# Altium footprint library Connector_FFC-FPC.PcbLib: 372 footprints (part 10 of 24)
Each footprint in its own frame and in the unit in brackets; x right, y up, seen from the top. Pads: shape width x height; smd on the part's side, far side on the other; paste and mask are expansions set on the pad; w line width, h text height; cw(c..) or ccw(c..) is an arc to the next point about the centre after c.
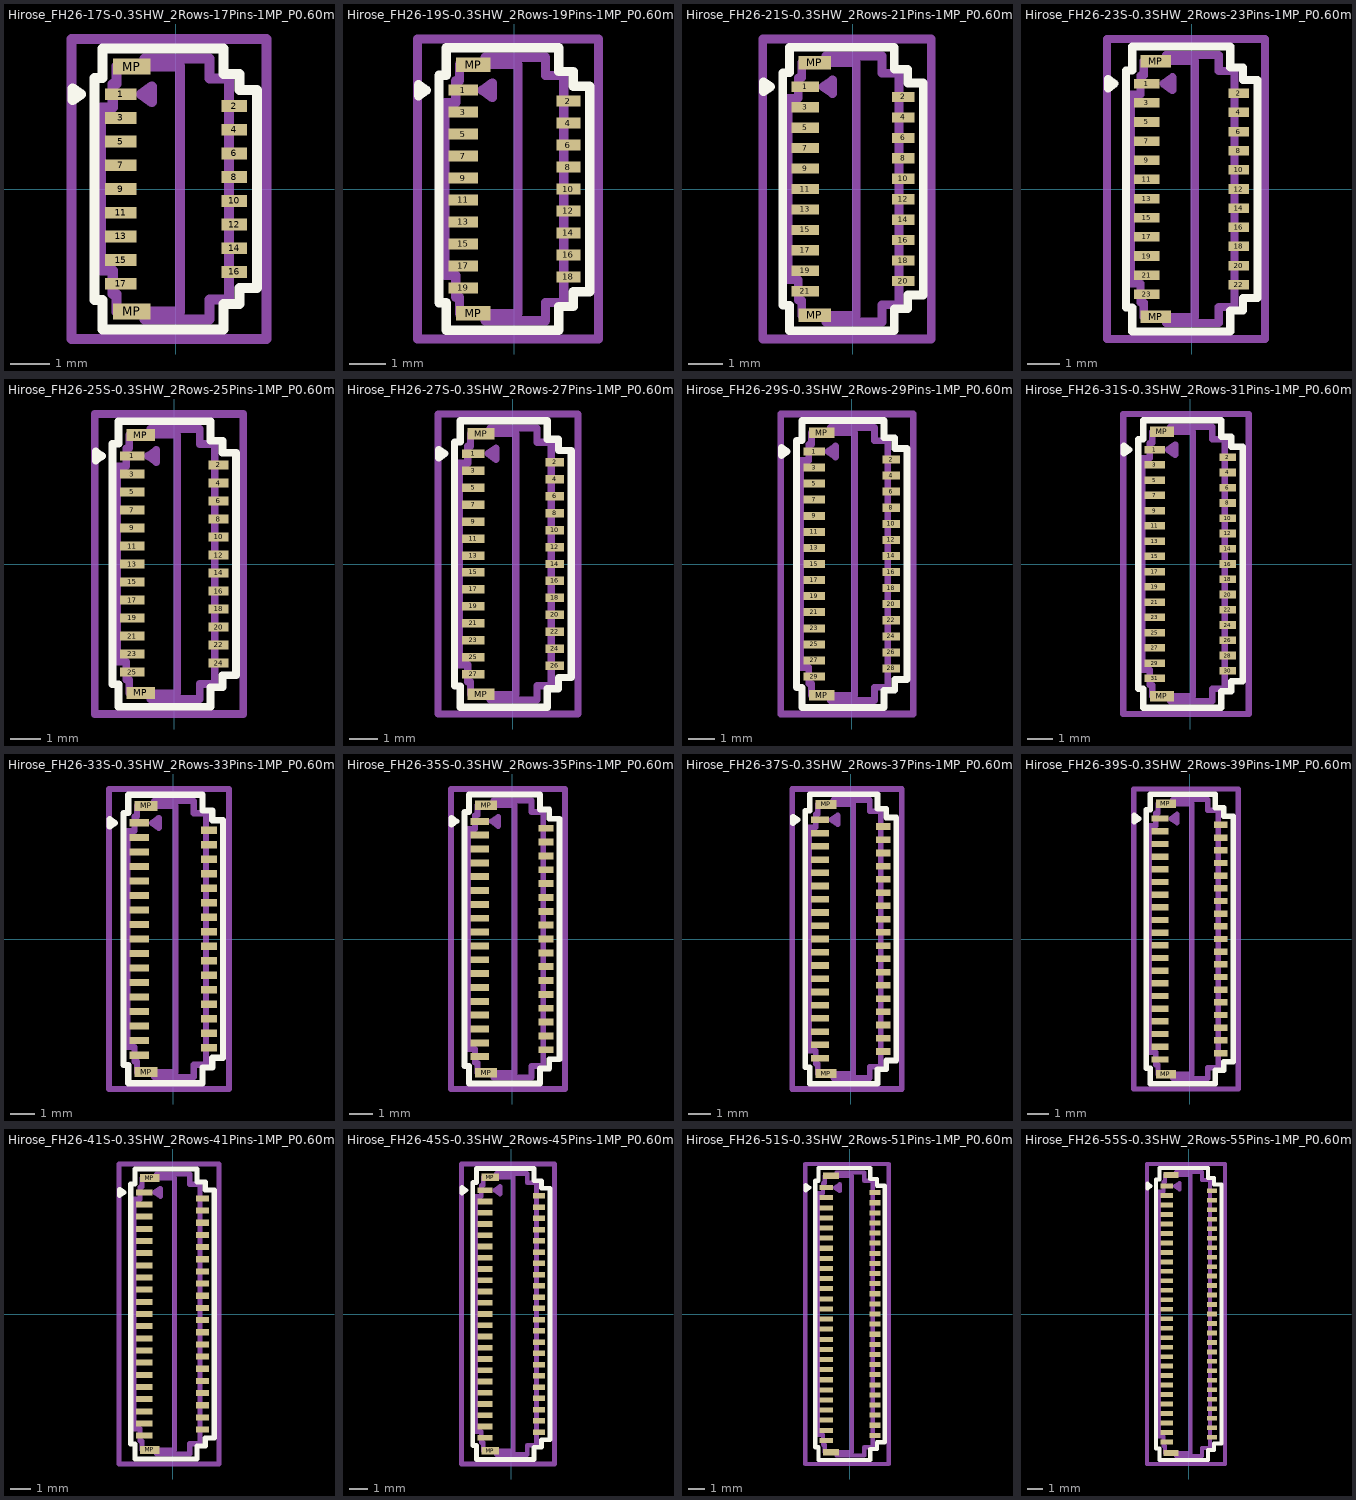
[diagram p9: the footprints below, top view; thin cyan lines are the x and y axes]

## Hirose_FH26-17S-0.3SHW_2Rows-17Pins-1MP_P0.60mm_Horizontal [mm]
pads (19):
  rect 0.8x0.3 smd: 1(-1.4,2.4) 3(-1.4,1.8) 5(-1.4,1.2) 7(-1.4,0.6) 9(-1.4,0) 11(-1.4,-0.6) 13(-1.4,-1.2) 15(-1.4,-1.8) 17(-1.4,-2.4)
  rect 0.65x0.3 smd: 2(1.475,2.1) 4(1.475,1.5) 6(1.475,0.9) 8(1.475,0.3) 10(1.475,-0.3) 12(1.475,-0.9) 14(1.475,-1.5) 16(1.475,-2.1)
  rect 0.95x0.4 smd: MP(-1.125,-3.1) MP(-1.125,3.1)
F.SilkS:
  lines w0.254: -2.622,2.25 -2.41,2.4 -2.622,2.55 -2.622,2.25 ; -2.06,-2.81 -1.86,-2.81 -1.86,-3.56 1.21,-3.56 1.21,-2.91 1.61,-2.91 1.61,-2.51 2.06,-2.51 2.06,0 2.06,2.51 1.61,2.51 1.61,2.91 1.21,2.91 1.21,3.56 -1.86,3.56 -1.86,2.81 -2.06,2.81 -2.06,0 -2.06,-2.81
Top Assembly:
  lines w0.254: -0.8,-3.11 0.1,-3.11 0.1,0 0.1,3.11 -0.8,3.11 ; -0.8,-3.11 -0.8,-3.3 0.85,-3.3 0.85,-2.8 1.35,-2.8 1.35,0 1.35,2.8 0.85,2.8 0.85,3.3 -0.8,3.3 -0.8,3.11 ; -0.8,-3.11 -1.5,-3.11 -1.5,-2.66 -1.6,-2.66 -1.6,-2.06 -1.9,-2.06 -1.9,0 -1.9,2.06 -1.6,2.06 -1.6,2.66 -1.5,2.66 -1.5,3.11 -0.8,3.11 ; -0.883,2.4 -0.6,2.6 -0.6,2.2 -0.883,2.4
  text "'.Designator'" at 1.429,-3.276 h0.81
Top Courtyard:
  lines w0.254: -2.65,-3.8 2.3,-3.8 2.3,3.8 -2.65,3.8 -2.65,-3.8
Top Designator:
  text ".Designator" at -7.793,-0.508 h1.52

## Hirose_FH26-19S-0.3SHW_2Rows-19Pins-1MP_P0.60mm_Horizontal [mm]
pads (21):
  rect 0.8x0.3 smd: 1(-1.4,2.7) 3(-1.4,2.1) 5(-1.4,1.5) 7(-1.4,0.9) 9(-1.4,0.3) 11(-1.4,-0.3) 13(-1.4,-0.9) 15(-1.4,-1.5) 17(-1.4,-2.1) 19(-1.4,-2.7)
  rect 0.65x0.3 smd: 2(1.475,2.4) 4(1.475,1.8) 6(1.475,1.2) 8(1.475,0.6) 10(1.475,0) 12(1.475,-0.6) 14(1.475,-1.2) 16(1.475,-1.8) 18(1.475,-2.4)
  rect 0.95x0.4 smd: MP(-1.125,-3.4) MP(-1.125,3.4)
F.SilkS:
  lines w0.254: -2.622,2.55 -2.41,2.7 -2.622,2.85 -2.622,2.55 ; -2.06,-3.11 -1.86,-3.11 -1.86,-3.86 1.21,-3.86 1.21,-3.21 1.61,-3.21 1.61,-2.81 2.06,-2.81 2.06,0 2.06,2.81 1.61,2.81 1.61,3.21 1.21,3.21 1.21,3.86 -1.86,3.86 -1.86,3.11 -2.06,3.11 -2.06,0 -2.06,-3.11
Top Assembly:
  lines w0.254: -0.8,-3.41 0.1,-3.41 0.1,0 0.1,3.41 -0.8,3.41 ; -0.8,-3.41 -0.8,-3.6 0.85,-3.6 0.85,-3.1 1.35,-3.1 1.35,0 1.35,3.1 0.85,3.1 0.85,3.6 -0.8,3.6 -0.8,3.41 ; -0.8,-3.41 -1.5,-3.41 -1.5,-2.96 -1.6,-2.96 -1.6,-2.36 -1.9,-2.36 -1.9,0 -1.9,2.36 -1.6,2.36 -1.6,2.96 -1.5,2.96 -1.5,3.41 -0.8,3.41 ; -0.883,2.7 -0.6,2.9 -0.6,2.5 -0.883,2.7
  text "'.Designator'" at 1.429,-3.276 h0.81
Top Courtyard:
  lines w0.254: -2.65,-4.1 2.3,-4.1 2.3,4.1 -2.65,4.1 -2.65,-4.1
Top Designator:
  text ".Designator" at -7.793,-0.508 h1.52

## Hirose_FH26-21S-0.3SHW_2Rows-21Pins-1MP_P0.60mm_Horizontal [mm]
pads (23):
  rect 0.8x0.3 smd: 1(-1.4,3) 3(-1.4,2.4) 5(-1.4,1.8) 7(-1.4,1.2) 9(-1.4,0.6) 11(-1.4,0) 13(-1.4,-0.6) 15(-1.4,-1.2) 17(-1.4,-1.8) 19(-1.4,-2.4) 21(-1.4,-3)
  rect 0.65x0.3 smd: 2(1.475,2.7) 4(1.475,2.1) 6(1.475,1.5) 8(1.475,0.9) 10(1.475,0.3) 12(1.475,-0.3) 14(1.475,-0.9) 16(1.475,-1.5) 18(1.475,-2.1) 20(1.475,-2.7)
  rect 0.95x0.4 smd: MP(-1.125,-3.7) MP(-1.125,3.7)
F.SilkS:
  lines w0.254: -2.622,2.85 -2.41,3 -2.622,3.15 -2.622,2.85 ; -2.06,-3.41 -1.86,-3.41 -1.86,-4.16 1.21,-4.16 1.21,-3.51 1.61,-3.51 1.61,-3.11 2.06,-3.11 2.06,0 2.06,3.11 1.61,3.11 1.61,3.51 1.21,3.51 1.21,4.16 -1.86,4.16 -1.86,3.41 -2.06,3.41 -2.06,0 -2.06,-3.41
Top Assembly:
  lines w0.254: -0.8,-3.71 0.1,-3.71 0.1,0 0.1,3.71 -0.8,3.71 ; -0.8,-3.71 -0.8,-3.9 0.85,-3.9 0.85,-3.4 1.35,-3.4 1.35,0 1.35,3.4 0.85,3.4 0.85,3.9 -0.8,3.9 -0.8,3.71 ; -0.8,-3.71 -1.5,-3.71 -1.5,-3.26 -1.6,-3.26 -1.6,-2.66 -1.9,-2.66 -1.9,0 -1.9,2.66 -1.6,2.66 -1.6,3.26 -1.5,3.26 -1.5,3.71 -0.8,3.71 ; -0.883,3 -0.6,3.2 -0.6,2.8 -0.883,3
  text "'.Designator'" at 1.429,-3.276 h0.81
Top Courtyard:
  lines w0.254: -2.65,-4.4 2.3,-4.4 2.3,4.4 -2.65,4.4 -2.65,-4.4
Top Designator:
  text ".Designator" at -7.793,-0.508 h1.52

## Hirose_FH26-23S-0.3SHW_2Rows-23Pins-1MP_P0.60mm_Horizontal [mm]
pads (25):
  rect 0.8x0.3 smd: 1(-1.4,3.3) 3(-1.4,2.7) 5(-1.4,2.1) 7(-1.4,1.5) 9(-1.4,0.9) 11(-1.4,0.3) 13(-1.4,-0.3) 15(-1.4,-0.9) 17(-1.4,-1.5) 19(-1.4,-2.1) 21(-1.4,-2.7) 23(-1.4,-3.3)
  rect 0.65x0.3 smd: 2(1.475,3) 4(1.475,2.4) 6(1.475,1.8) 8(1.475,1.2) 10(1.475,0.6) 12(1.475,0) 14(1.475,-0.6) 16(1.475,-1.2) 18(1.475,-1.8) 20(1.475,-2.4) 22(1.475,-3)
  rect 0.95x0.4 smd: MP(-1.125,-4) MP(-1.125,4)
F.SilkS:
  lines w0.254: -2.622,3.15 -2.41,3.3 -2.622,3.45 -2.622,3.15 ; -2.06,-3.71 -1.86,-3.71 -1.86,-4.46 1.21,-4.46 1.21,-3.81 1.61,-3.81 1.61,-3.41 2.06,-3.41 2.06,0 2.06,3.41 1.61,3.41 1.61,3.81 1.21,3.81 1.21,4.46 -1.86,4.46 -1.86,3.71 -2.06,3.71 -2.06,0 -2.06,-3.71
Top Assembly:
  lines w0.254: -0.8,-4.01 0.1,-4.01 0.1,0 0.1,4.01 -0.8,4.01 ; -0.8,-4.01 -0.8,-4.2 0.85,-4.2 0.85,-3.7 1.35,-3.7 1.35,0 1.35,3.7 0.85,3.7 0.85,4.2 -0.8,4.2 -0.8,4.01 ; -0.8,-4.01 -1.5,-4.01 -1.5,-3.56 -1.6,-3.56 -1.6,-2.96 -1.9,-2.96 -1.9,0 -1.9,2.96 -1.6,2.96 -1.6,3.56 -1.5,3.56 -1.5,4.01 -0.8,4.01 ; -0.883,3.3 -0.6,3.5 -0.6,3.1 -0.883,3.3
  text "'.Designator'" at 1.429,-3.276 h0.81
Top Courtyard:
  lines w0.254: -2.65,-4.7 2.3,-4.7 2.3,4.7 -2.65,4.7 -2.65,-4.7
Top Designator:
  text ".Designator" at -7.793,-0.508 h1.52

## Hirose_FH26-25S-0.3SHW_2Rows-25Pins-1MP_P0.60mm_Horizontal [mm]
pads (27):
  rect 0.8x0.3 smd: 1(-1.4,3.6) 3(-1.4,3) 5(-1.4,2.4) 7(-1.4,1.8) 9(-1.4,1.2) 11(-1.4,0.6) 13(-1.4,0) 15(-1.4,-0.6) 17(-1.4,-1.2) 19(-1.4,-1.8) 21(-1.4,-2.4) 23(-1.4,-3) 25(-1.4,-3.6)
  rect 0.65x0.3 smd: 2(1.475,3.3) 4(1.475,2.7) 6(1.475,2.1) 8(1.475,1.5) 10(1.475,0.9) 12(1.475,0.3) 14(1.475,-0.3) 16(1.475,-0.9) 18(1.475,-1.5) 20(1.475,-2.1) 22(1.475,-2.7) 24(1.475,-3.3)
  rect 0.95x0.4 smd: MP(-1.125,-4.3) MP(-1.125,4.3)
F.SilkS:
  lines w0.254: -2.622,3.45 -2.41,3.6 -2.622,3.75 -2.622,3.45 ; -2.06,-4.01 -1.86,-4.01 -1.86,-4.76 1.21,-4.76 1.21,-4.11 1.61,-4.11 1.61,-3.71 2.06,-3.71 2.06,0 2.06,3.71 1.61,3.71 1.61,4.11 1.21,4.11 1.21,4.76 -1.86,4.76 -1.86,4.01 -2.06,4.01 -2.06,0 -2.06,-4.01
Top Assembly:
  lines w0.254: -0.8,-4.31 0.1,-4.31 0.1,0 0.1,4.31 -0.8,4.31 ; -0.8,-4.31 -0.8,-4.5 0.85,-4.5 0.85,-4 1.35,-4 1.35,0 1.35,4 0.85,4 0.85,4.5 -0.8,4.5 -0.8,4.31 ; -0.8,-4.31 -1.5,-4.31 -1.5,-3.86 -1.6,-3.86 -1.6,-3.26 -1.9,-3.26 -1.9,0 -1.9,3.26 -1.6,3.26 -1.6,3.86 -1.5,3.86 -1.5,4.31 -0.8,4.31 ; -0.883,3.6 -0.6,3.8 -0.6,3.4 -0.883,3.6
  text "'.Designator'" at 1.429,-3.276 h0.81
Top Courtyard:
  lines w0.254: -2.65,-5 2.3,-5 2.3,5 -2.65,5 -2.65,-5
Top Designator:
  text ".Designator" at -7.793,-0.508 h1.52

## Hirose_FH26-27S-0.3SHW_2Rows-27Pins-1MP_P0.60mm_Horizontal [mm]
pads (29):
  rect 0.8x0.3 smd: 1(-1.4,3.9) 3(-1.4,3.3) 5(-1.4,2.7) 7(-1.4,2.1) 9(-1.4,1.5) 11(-1.4,0.9) 13(-1.4,0.3) 15(-1.4,-0.3) 17(-1.4,-0.9) 19(-1.4,-1.5) 21(-1.4,-2.1) 23(-1.4,-2.7) 25(-1.4,-3.3) 27(-1.4,-3.9)
  rect 0.65x0.3 smd: 2(1.475,3.6) 4(1.475,3) 6(1.475,2.4) 8(1.475,1.8) 10(1.475,1.2) 12(1.475,0.6) 14(1.475,0) 16(1.475,-0.6) 18(1.475,-1.2) 20(1.475,-1.8) 22(1.475,-2.4) 24(1.475,-3) 26(1.475,-3.6)
  rect 0.95x0.4 smd: MP(-1.125,-4.6) MP(-1.125,4.6)
F.SilkS:
  lines w0.254: -2.622,3.75 -2.41,3.9 -2.622,4.05 -2.622,3.75 ; -2.06,-4.31 -1.86,-4.31 -1.86,-5.06 1.21,-5.06 1.21,-4.41 1.61,-4.41 1.61,-4.01 2.06,-4.01 2.06,0 2.06,4.01 1.61,4.01 1.61,4.41 1.21,4.41 1.21,5.06 -1.86,5.06 -1.86,4.31 -2.06,4.31 -2.06,0 -2.06,-4.31
Top Assembly:
  lines w0.254: -0.8,-4.61 0.1,-4.61 0.1,0 0.1,4.61 -0.8,4.61 ; -0.8,-4.61 -0.8,-4.8 0.85,-4.8 0.85,-4.3 1.35,-4.3 1.35,0 1.35,4.3 0.85,4.3 0.85,4.8 -0.8,4.8 -0.8,4.61 ; -0.8,-4.61 -1.5,-4.61 -1.5,-4.16 -1.6,-4.16 -1.6,-3.56 -1.9,-3.56 -1.9,0 -1.9,3.56 -1.6,3.56 -1.6,4.16 -1.5,4.16 -1.5,4.61 -0.8,4.61 ; -0.883,3.9 -0.6,4.1 -0.6,3.7 -0.883,3.9
  text "'.Designator'" at 1.429,-3.276 h0.81
Top Courtyard:
  lines w0.254: -2.65,-5.3 2.3,-5.3 2.3,5.3 -2.65,5.3 -2.65,-5.3
Top Designator:
  text ".Designator" at -7.793,-0.508 h1.52

## Hirose_FH26-29S-0.3SHW_2Rows-29Pins-1MP_P0.60mm_Horizontal [mm]
pads (31):
  rect 0.8x0.3 smd: 1(-1.4,4.2) 3(-1.4,3.6) 5(-1.4,3) 7(-1.4,2.4) 9(-1.4,1.8) 11(-1.4,1.2) 13(-1.4,0.6) 15(-1.4,0) 17(-1.4,-0.6) 19(-1.4,-1.2) 21(-1.4,-1.8) 23(-1.4,-2.4) 25(-1.4,-3) 27(-1.4,-3.6) 29(-1.4,-4.2)
  rect 0.65x0.3 smd: 2(1.475,3.9) 4(1.475,3.3) 6(1.475,2.7) 8(1.475,2.1) 10(1.475,1.5) 12(1.475,0.9) 14(1.475,0.3) 16(1.475,-0.3) 18(1.475,-0.9) 20(1.475,-1.5) 22(1.475,-2.1) 24(1.475,-2.7) 26(1.475,-3.3) 28(1.475,-3.9)
  rect 0.95x0.4 smd: MP(-1.125,-4.9) MP(-1.125,4.9)
F.SilkS:
  lines w0.254: -2.622,4.05 -2.41,4.2 -2.622,4.35 -2.622,4.05 ; -2.06,-4.61 -1.86,-4.61 -1.86,-5.36 1.21,-5.36 1.21,-4.71 1.61,-4.71 1.61,-4.31 2.06,-4.31 2.06,0 2.06,4.31 1.61,4.31 1.61,4.71 1.21,4.71 1.21,5.36 -1.86,5.36 -1.86,4.61 -2.06,4.61 -2.06,0 -2.06,-4.61
Top Assembly:
  lines w0.254: -0.8,-4.91 0.1,-4.91 0.1,0 0.1,4.91 -0.8,4.91 ; -0.8,-4.91 -0.8,-5.1 0.85,-5.1 0.85,-4.6 1.35,-4.6 1.35,0 1.35,4.6 0.85,4.6 0.85,5.1 -0.8,5.1 -0.8,4.91 ; -0.8,-4.91 -1.5,-4.91 -1.5,-4.46 -1.6,-4.46 -1.6,-3.86 -1.9,-3.86 -1.9,0 -1.9,3.86 -1.6,3.86 -1.6,4.46 -1.5,4.46 -1.5,4.91 -0.8,4.91 ; -0.883,4.2 -0.6,4.4 -0.6,4 -0.883,4.2
  text "'.Designator'" at 1.429,-3.276 h0.81
Top Courtyard:
  lines w0.254: -2.65,-5.6 2.3,-5.6 2.3,5.6 -2.65,5.6 -2.65,-5.6
Top Designator:
  text ".Designator" at -7.793,-0.508 h1.52

## Hirose_FH26-31S-0.3SHW_2Rows-31Pins-1MP_P0.60mm_Horizontal [mm]
pads (33):
  rect 0.8x0.3 smd: 1(-1.4,4.5) 3(-1.4,3.9) 5(-1.4,3.3) 7(-1.4,2.7) 9(-1.4,2.1) 11(-1.4,1.5) 13(-1.4,0.9) 15(-1.4,0.3) 17(-1.4,-0.3) 19(-1.4,-0.9) 21(-1.4,-1.5) 23(-1.4,-2.1) 25(-1.4,-2.7) 27(-1.4,-3.3) 29(-1.4,-3.9) 31(-1.4,-4.5)
  rect 0.65x0.3 smd: 2(1.475,4.2) 4(1.475,3.6) 6(1.475,3) 8(1.475,2.4) 10(1.475,1.8) 12(1.475,1.2) 14(1.475,0.6) 16(1.475,0) 18(1.475,-0.6) 20(1.475,-1.2) 22(1.475,-1.8) 24(1.475,-2.4) 26(1.475,-3) 28(1.475,-3.6) 30(1.475,-4.2)
  rect 0.95x0.4 smd: MP(-1.125,-5.2) MP(-1.125,5.2)
F.SilkS:
  lines w0.254: -2.622,4.35 -2.41,4.5 -2.622,4.65 -2.622,4.35 ; -2.06,-4.91 -1.86,-4.91 -1.86,-5.66 1.21,-5.66 1.21,-5.01 1.61,-5.01 1.61,-4.61 2.06,-4.61 2.06,0 2.06,4.61 1.61,4.61 1.61,5.01 1.21,5.01 1.21,5.66 -1.86,5.66 -1.86,4.91 -2.06,4.91 -2.06,0 -2.06,-4.91
Top Assembly:
  lines w0.254: -0.8,-5.21 0.1,-5.21 0.1,0 0.1,5.21 -0.8,5.21 ; -0.8,-5.21 -0.8,-5.4 0.85,-5.4 0.85,-4.9 1.35,-4.9 1.35,0 1.35,4.9 0.85,4.9 0.85,5.4 -0.8,5.4 -0.8,5.21 ; -0.8,-5.21 -1.5,-5.21 -1.5,-4.76 -1.6,-4.76 -1.6,-4.16 -1.9,-4.16 -1.9,0 -1.9,4.16 -1.6,4.16 -1.6,4.76 -1.5,4.76 -1.5,5.21 -0.8,5.21 ; -0.883,4.5 -0.6,4.7 -0.6,4.3 -0.883,4.5
  text "'.Designator'" at 1.429,-3.276 h0.81
Top Courtyard:
  lines w0.254: -2.65,-5.9 2.3,-5.9 2.3,5.9 -2.65,5.9 -2.65,-5.9
Top Designator:
  text ".Designator" at -7.793,-0.508 h1.52

## Hirose_FH26-33S-0.3SHW_2Rows-33Pins-1MP_P0.60mm_Horizontal [mm]
pads (35):
  rect 0.8x0.3 smd: 1(-1.4,4.8) 3(-1.4,4.2) 5(-1.4,3.6) 7(-1.4,3) 9(-1.4,2.4) 11(-1.4,1.8) 13(-1.4,1.2) 15(-1.4,0.6) 17(-1.4,0) 19(-1.4,-0.6) 21(-1.4,-1.2) 23(-1.4,-1.8) 25(-1.4,-2.4) 27(-1.4,-3) 29(-1.4,-3.6) 31(-1.4,-4.2) 33(-1.4,-4.8)
  rect 0.65x0.3 smd: 2(1.475,4.5) 4(1.475,3.9) 6(1.475,3.3) 8(1.475,2.7) 10(1.475,2.1) 12(1.475,1.5) 14(1.475,0.9) 16(1.475,0.3) 18(1.475,-0.3) 20(1.475,-0.9) 22(1.475,-1.5) 24(1.475,-2.1) 26(1.475,-2.7) 28(1.475,-3.3) 30(1.475,-3.9) 32(1.475,-4.5)
  rect 0.95x0.4 smd: MP(-1.125,-5.5) MP(-1.125,5.5)
F.SilkS:
  lines w0.254: -2.622,4.65 -2.41,4.8 -2.622,4.95 -2.622,4.65 ; -2.06,-5.21 -1.86,-5.21 -1.86,-5.96 1.21,-5.96 1.21,-5.31 1.61,-5.31 1.61,-4.91 2.06,-4.91 2.06,0 2.06,4.91 1.61,4.91 1.61,5.31 1.21,5.31 1.21,5.96 -1.86,5.96 -1.86,5.21 -2.06,5.21 -2.06,0 -2.06,-5.21
Top Assembly:
  lines w0.254: -0.8,-5.51 0.1,-5.51 0.1,0 0.1,5.51 -0.8,5.51 ; -0.8,-5.51 -0.8,-5.7 0.85,-5.7 0.85,-5.2 1.35,-5.2 1.35,0 1.35,5.2 0.85,5.2 0.85,5.7 -0.8,5.7 -0.8,5.51 ; -0.8,-5.51 -1.5,-5.51 -1.5,-5.06 -1.6,-5.06 -1.6,-4.46 -1.9,-4.46 -1.9,0 -1.9,4.46 -1.6,4.46 -1.6,5.06 -1.5,5.06 -1.5,5.51 -0.8,5.51 ; -0.883,4.8 -0.6,5 -0.6,4.6 -0.883,4.8
  text "'.Designator'" at 1.429,-3.276 h0.81
Top Courtyard:
  lines w0.254: -2.65,-6.2 2.3,-6.2 2.3,6.2 -2.65,6.2 -2.65,-6.2
Top Designator:
  text ".Designator" at -7.793,-0.508 h1.52

## Hirose_FH26-35S-0.3SHW_2Rows-35Pins-1MP_P0.60mm_Horizontal [mm]
pads (37):
  rect 0.8x0.3 smd: 1(-1.4,5.1) 3(-1.4,4.5) 5(-1.4,3.9) 7(-1.4,3.3) 9(-1.4,2.7) 11(-1.4,2.1) 13(-1.4,1.5) 15(-1.4,0.9) 17(-1.4,0.3) 19(-1.4,-0.3) 21(-1.4,-0.9) 23(-1.4,-1.5) 25(-1.4,-2.1) 27(-1.4,-2.7) 29(-1.4,-3.3) 31(-1.4,-3.9) 33(-1.4,-4.5) 35(-1.4,-5.1)
  rect 0.65x0.3 smd: 2(1.475,4.8) 4(1.475,4.2) 6(1.475,3.6) 8(1.475,3) 10(1.475,2.4) 12(1.475,1.8) 14(1.475,1.2) 16(1.475,0.6) 18(1.475,0) 20(1.475,-0.6) 22(1.475,-1.2) 24(1.475,-1.8) 26(1.475,-2.4) 28(1.475,-3) 30(1.475,-3.6) 32(1.475,-4.2) 34(1.475,-4.8)
  rect 0.95x0.4 smd: MP(-1.125,-5.8) MP(-1.125,5.8)
F.SilkS:
  lines w0.254: -2.622,4.95 -2.41,5.1 -2.622,5.25 -2.622,4.95 ; -2.06,-5.51 -1.86,-5.51 -1.86,-6.26 1.21,-6.26 1.21,-5.61 1.61,-5.61 1.61,-5.21 2.06,-5.21 2.06,0 2.06,5.21 1.61,5.21 1.61,5.61 1.21,5.61 1.21,6.26 -1.86,6.26 -1.86,5.51 -2.06,5.51 -2.06,0 -2.06,-5.51
Top Assembly:
  lines w0.254: -0.8,-5.81 0.1,-5.81 0.1,0 0.1,5.81 -0.8,5.81 ; -0.8,-5.81 -0.8,-6 0.85,-6 0.85,-5.5 1.35,-5.5 1.35,0 1.35,5.5 0.85,5.5 0.85,6 -0.8,6 -0.8,5.81 ; -0.8,-5.81 -1.5,-5.81 -1.5,-5.36 -1.6,-5.36 -1.6,-4.76 -1.9,-4.76 -1.9,0 -1.9,4.76 -1.6,4.76 -1.6,5.36 -1.5,5.36 -1.5,5.81 -0.8,5.81 ; -0.883,5.1 -0.6,5.3 -0.6,4.9 -0.883,5.1
  text "'.Designator'" at 1.429,-3.276 h0.81
Top Courtyard:
  lines w0.254: -2.65,-6.5 2.3,-6.5 2.3,6.5 -2.65,6.5 -2.65,-6.5
Top Designator:
  text ".Designator" at -7.793,-0.508 h1.52

## Hirose_FH26-37S-0.3SHW_2Rows-37Pins-1MP_P0.60mm_Horizontal [mm]
pads (39):
  rect 0.8x0.3 smd: 1(-1.4,5.4) 3(-1.4,4.8) 5(-1.4,4.2) 7(-1.4,3.6) 9(-1.4,3) 11(-1.4,2.4) 13(-1.4,1.8) 15(-1.4,1.2) 17(-1.4,0.6) 19(-1.4,0) 21(-1.4,-0.6) 23(-1.4,-1.2) 25(-1.4,-1.8) 27(-1.4,-2.4) 29(-1.4,-3) 31(-1.4,-3.6) 33(-1.4,-4.2) 35(-1.4,-4.8) 37(-1.4,-5.4)
  rect 0.65x0.3 smd: 2(1.475,5.1) 4(1.475,4.5) 6(1.475,3.9) 8(1.475,3.3) 10(1.475,2.7) 12(1.475,2.1) 14(1.475,1.5) 16(1.475,0.9) 18(1.475,0.3) 20(1.475,-0.3) 22(1.475,-0.9) 24(1.475,-1.5) 26(1.475,-2.1) 28(1.475,-2.7) 30(1.475,-3.3) 32(1.475,-3.9) 34(1.475,-4.5) 36(1.475,-5.1)
  rect 0.95x0.4 smd: MP(-1.125,-6.1) MP(-1.125,6.1)
F.SilkS:
  lines w0.254: -2.622,5.25 -2.41,5.4 -2.622,5.55 -2.622,5.25 ; -2.06,-5.81 -1.86,-5.81 -1.86,-6.56 1.21,-6.56 1.21,-5.91 1.61,-5.91 1.61,-5.51 2.06,-5.51 2.06,0 2.06,5.51 1.61,5.51 1.61,5.91 1.21,5.91 1.21,6.56 -1.86,6.56 -1.86,5.81 -2.06,5.81 -2.06,0 -2.06,-5.81
Top Assembly:
  lines w0.254: -0.8,-6.11 0.1,-6.11 0.1,0 0.1,6.11 -0.8,6.11 ; -0.8,-6.11 -0.8,-6.3 0.85,-6.3 0.85,-5.8 1.35,-5.8 1.35,0 1.35,5.8 0.85,5.8 0.85,6.3 -0.8,6.3 -0.8,6.11 ; -0.8,-6.11 -1.5,-6.11 -1.5,-5.66 -1.6,-5.66 -1.6,-5.06 -1.9,-5.06 -1.9,0 -1.9,5.06 -1.6,5.06 -1.6,5.66 -1.5,5.66 -1.5,6.11 -0.8,6.11 ; -0.883,5.4 -0.6,5.6 -0.6,5.2 -0.883,5.4
  text "'.Designator'" at 1.429,-3.276 h0.81
Top Courtyard:
  lines w0.254: -2.65,-6.8 2.3,-6.8 2.3,6.8 -2.65,6.8 -2.65,-6.8
Top Designator:
  text ".Designator" at -7.793,-0.508 h1.52

## Hirose_FH26-39S-0.3SHW_2Rows-39Pins-1MP_P0.60mm_Horizontal [mm]
pads (41):
  rect 0.8x0.3 smd: 1(-1.4,5.7) 3(-1.4,5.1) 5(-1.4,4.5) 7(-1.4,3.9) 9(-1.4,3.3) 11(-1.4,2.7) 13(-1.4,2.1) 15(-1.4,1.5) 17(-1.4,0.9) 19(-1.4,0.3) 21(-1.4,-0.3) 23(-1.4,-0.9) 25(-1.4,-1.5) 27(-1.4,-2.1) 29(-1.4,-2.7) 31(-1.4,-3.3) 33(-1.4,-3.9) 35(-1.4,-4.5) 37(-1.4,-5.1) 39(-1.4,-5.7)
  rect 0.65x0.3 smd: 2(1.475,5.4) 4(1.475,4.8) 6(1.475,4.2) 8(1.475,3.6) 10(1.475,3) 12(1.475,2.4) 14(1.475,1.8) 16(1.475,1.2) 18(1.475,0.6) 20(1.475,0) 22(1.475,-0.6) 24(1.475,-1.2) 26(1.475,-1.8) 28(1.475,-2.4) 30(1.475,-3) 32(1.475,-3.6) 34(1.475,-4.2) 36(1.475,-4.8) 38(1.475,-5.4)
  rect 0.95x0.4 smd: MP(-1.125,-6.4) MP(-1.125,6.4)
F.SilkS:
  lines w0.254: -2.622,5.55 -2.41,5.7 -2.622,5.85 -2.622,5.55 ; -2.06,-6.11 -1.86,-6.11 -1.86,-6.86 1.21,-6.86 1.21,-6.21 1.61,-6.21 1.61,-5.81 2.06,-5.81 2.06,0 2.06,5.81 1.61,5.81 1.61,6.21 1.21,6.21 1.21,6.86 -1.86,6.86 -1.86,6.11 -2.06,6.11 -2.06,0 -2.06,-6.11
Top Assembly:
  lines w0.254: -0.8,-6.41 0.1,-6.41 0.1,0 0.1,6.41 -0.8,6.41 ; -0.8,-6.41 -0.8,-6.6 0.85,-6.6 0.85,-6.1 1.35,-6.1 1.35,0 1.35,6.1 0.85,6.1 0.85,6.6 -0.8,6.6 -0.8,6.41 ; -0.8,-6.41 -1.5,-6.41 -1.5,-5.96 -1.6,-5.96 -1.6,-5.36 -1.9,-5.36 -1.9,0 -1.9,5.36 -1.6,5.36 -1.6,5.96 -1.5,5.96 -1.5,6.41 -0.8,6.41 ; -0.883,5.7 -0.6,5.9 -0.6,5.5 -0.883,5.7
  text "'.Designator'" at 1.429,-3.276 h0.81
Top Courtyard:
  lines w0.254: -2.65,-7.1 2.3,-7.1 2.3,7.1 -2.65,7.1 -2.65,-7.1
Top Designator:
  text ".Designator" at -7.793,-0.508 h1.52

## Hirose_FH26-41S-0.3SHW_2Rows-41Pins-1MP_P0.60mm_Horizontal [mm]
pads (43):
  rect 0.8x0.3 smd: 1(-1.4,6) 3(-1.4,5.4) 5(-1.4,4.8) 7(-1.4,4.2) 9(-1.4,3.6) 11(-1.4,3) 13(-1.4,2.4) 15(-1.4,1.8) 17(-1.4,1.2) 19(-1.4,0.6) 21(-1.4,0) 23(-1.4,-0.6) 25(-1.4,-1.2) 27(-1.4,-1.8) 29(-1.4,-2.4) 31(-1.4,-3) 33(-1.4,-3.6) 35(-1.4,-4.2) 37(-1.4,-4.8) 39(-1.4,-5.4) 41(-1.4,-6)
  rect 0.65x0.3 smd: 2(1.475,5.7) 4(1.475,5.1) 6(1.475,4.5) 8(1.475,3.9) 10(1.475,3.3) 12(1.475,2.7) 14(1.475,2.1) 16(1.475,1.5) 18(1.475,0.9) 20(1.475,0.3) 22(1.475,-0.3) 24(1.475,-0.9) 26(1.475,-1.5) 28(1.475,-2.1) 30(1.475,-2.7) 32(1.475,-3.3) 34(1.475,-3.9) 36(1.475,-4.5) 38(1.475,-5.1) 40(1.475,-5.7)
  rect 0.95x0.4 smd: MP(-1.125,-6.7) MP(-1.125,6.7)
F.SilkS:
  lines w0.254: -2.622,5.85 -2.41,6 -2.622,6.15 -2.622,5.85 ; -2.06,-6.41 -1.86,-6.41 -1.86,-7.16 1.21,-7.16 1.21,-6.51 1.61,-6.51 1.61,-6.11 2.06,-6.11 2.06,0 2.06,6.11 1.61,6.11 1.61,6.51 1.21,6.51 1.21,7.16 -1.86,7.16 -1.86,6.41 -2.06,6.41 -2.06,0 -2.06,-6.41
Top Assembly:
  lines w0.254: -0.8,-6.71 0.1,-6.71 0.1,0 0.1,6.71 -0.8,6.71 ; -0.8,-6.71 -0.8,-6.9 0.85,-6.9 0.85,-6.4 1.35,-6.4 1.35,0 1.35,6.4 0.85,6.4 0.85,6.9 -0.8,6.9 -0.8,6.71 ; -0.8,-6.71 -1.5,-6.71 -1.5,-6.26 -1.6,-6.26 -1.6,-5.66 -1.9,-5.66 -1.9,0 -1.9,5.66 -1.6,5.66 -1.6,6.26 -1.5,6.26 -1.5,6.71 -0.8,6.71 ; -0.883,6 -0.6,6.2 -0.6,5.8 -0.883,6
  text "'.Designator'" at 1.429,-3.276 h0.81
Top Courtyard:
  lines w0.254: -2.65,-7.4 2.3,-7.4 2.3,7.4 -2.65,7.4 -2.65,-7.4
Top Designator:
  text ".Designator" at -7.793,-0.508 h1.52

## Hirose_FH26-45S-0.3SHW_2Rows-45Pins-1MP_P0.60mm_Horizontal [mm]
pads (47):
  rect 0.8x0.3 smd: 1(-1.4,6.6) 3(-1.4,6) 5(-1.4,5.4) 7(-1.4,4.8) 9(-1.4,4.2) 11(-1.4,3.6) 13(-1.4,3) 15(-1.4,2.4) 17(-1.4,1.8) 19(-1.4,1.2) 21(-1.4,0.6) 23(-1.4,0) 25(-1.4,-0.6) 27(-1.4,-1.2) 29(-1.4,-1.8) 31(-1.4,-2.4) 33(-1.4,-3) 35(-1.4,-3.6) 37(-1.4,-4.2) 39(-1.4,-4.8) 41(-1.4,-5.4) 43(-1.4,-6) 45(-1.4,-6.6)
  rect 0.65x0.3 smd: 2(1.475,6.3) 4(1.475,5.7) 6(1.475,5.1) 8(1.475,4.5) 10(1.475,3.9) 12(1.475,3.3) 14(1.475,2.7) 16(1.475,2.1) 18(1.475,1.5) 20(1.475,0.9) 22(1.475,0.3) 24(1.475,-0.3) 26(1.475,-0.9) 28(1.475,-1.5) 30(1.475,-2.1) 32(1.475,-2.7) 34(1.475,-3.3) 36(1.475,-3.9) 38(1.475,-4.5) 40(1.475,-5.1) 42(1.475,-5.7) 44(1.475,-6.3)
  rect 0.95x0.4 smd: MP(-1.125,-7.3) MP(-1.125,7.3)
F.SilkS:
  lines w0.254: -2.622,6.45 -2.41,6.6 -2.622,6.75 -2.622,6.45 ; -2.06,-7.01 -1.86,-7.01 -1.86,-7.76 1.21,-7.76 1.21,-7.11 1.61,-7.11 1.61,-6.71 2.06,-6.71 2.06,0 2.06,6.71 1.61,6.71 1.61,7.11 1.21,7.11 1.21,7.76 -1.86,7.76 -1.86,7.01 -2.06,7.01 -2.06,0 -2.06,-7.01
Top Assembly:
  lines w0.254: -0.8,-7.31 0.1,-7.31 0.1,0 0.1,7.31 -0.8,7.31 ; -0.8,-7.31 -0.8,-7.5 0.85,-7.5 0.85,-7 1.35,-7 1.35,0 1.35,7 0.85,7 0.85,7.5 -0.8,7.5 -0.8,7.31 ; -0.8,-7.31 -1.5,-7.31 -1.5,-6.86 -1.6,-6.86 -1.6,-6.26 -1.9,-6.26 -1.9,0 -1.9,6.26 -1.6,6.26 -1.6,6.86 -1.5,6.86 -1.5,7.31 -0.8,7.31 ; -0.883,6.6 -0.6,6.8 -0.6,6.4 -0.883,6.6
  text "'.Designator'" at 1.429,-3.276 h0.81
Top Courtyard:
  lines w0.254: -2.65,-8 2.3,-8 2.3,8 -2.65,8 -2.65,-8
Top Designator:
  text ".Designator" at -7.793,-0.508 h1.52

## Hirose_FH26-51S-0.3SHW_2Rows-51Pins-1MP_P0.60mm_Horizontal [mm]
pads (53):
  rect 0.8x0.3 smd: 1(-1.4,7.5) 3(-1.4,6.9) 5(-1.4,6.3) 7(-1.4,5.7) 9(-1.4,5.1) 11(-1.4,4.5) 13(-1.4,3.9) 15(-1.4,3.3) 17(-1.4,2.7) 19(-1.4,2.1) 21(-1.4,1.5) 23(-1.4,0.9) 25(-1.4,0.3) 27(-1.4,-0.3) 29(-1.4,-0.9) 31(-1.4,-1.5) 33(-1.4,-2.1) 35(-1.4,-2.7) 37(-1.4,-3.3) 39(-1.4,-3.9) 41(-1.4,-4.5) 43(-1.4,-5.1) 45(-1.4,-5.7) 47(-1.4,-6.3) 49(-1.4,-6.9) 51(-1.4,-7.5)
  rect 0.65x0.3 smd: 2(1.475,7.2) 4(1.475,6.6) 6(1.475,6) 8(1.475,5.4) 10(1.475,4.8) 12(1.475,4.2) 14(1.475,3.6) 16(1.475,3) 18(1.475,2.4) 20(1.475,1.8) 22(1.475,1.2) 24(1.475,0.6) 26(1.475,0) 28(1.475,-0.6) 30(1.475,-1.2) 32(1.475,-1.8) 34(1.475,-2.4) 36(1.475,-3) 38(1.475,-3.6) 40(1.475,-4.2) 42(1.475,-4.8) 44(1.475,-5.4) 46(1.475,-6) 48(1.475,-6.6) 50(1.475,-7.2)
  rect 0.95x0.4 smd: MP(-1.125,-8.2) MP(-1.125,8.2)
F.SilkS:
  lines w0.254: -2.622,7.35 -2.41,7.5 -2.622,7.65 -2.622,7.35 ; -2.06,-7.91 -1.86,-7.91 -1.86,-8.66 1.21,-8.66 1.21,-8.01 1.61,-8.01 1.61,-7.61 2.06,-7.61 2.06,0 2.06,7.61 1.61,7.61 1.61,8.01 1.21,8.01 1.21,8.66 -1.86,8.66 -1.86,7.91 -2.06,7.91 -2.06,0 -2.06,-7.91
Top Assembly:
  lines w0.254: -0.8,-8.21 0.1,-8.21 0.1,0 0.1,8.21 -0.8,8.21 ; -0.8,-8.21 -0.8,-8.4 0.85,-8.4 0.85,-7.9 1.35,-7.9 1.35,0 1.35,7.9 0.85,7.9 0.85,8.4 -0.8,8.4 -0.8,8.21 ; -0.8,-8.21 -1.5,-8.21 -1.5,-7.76 -1.6,-7.76 -1.6,-7.16 -1.9,-7.16 -1.9,0 -1.9,7.16 -1.6,7.16 -1.6,7.76 -1.5,7.76 -1.5,8.21 -0.8,8.21 ; -0.883,7.5 -0.6,7.7 -0.6,7.3 -0.883,7.5
  text "'.Designator'" at 1.429,-3.276 h0.81
Top Courtyard:
  lines w0.254: -2.65,-8.9 2.3,-8.9 2.3,8.9 -2.65,8.9 -2.65,-8.9
Top Designator:
  text ".Designator" at -7.793,-0.508 h1.52

## Hirose_FH26-55S-0.3SHW_2Rows-55Pins-1MP_P0.60mm_Horizontal [mm]
pads (57):
  rect 0.8x0.3 smd: 1(-1.4,8.1) 3(-1.4,7.5) 5(-1.4,6.9) 7(-1.4,6.3) 9(-1.4,5.7) 11(-1.4,5.1) 13(-1.4,4.5) 15(-1.4,3.9) 17(-1.4,3.3) 19(-1.4,2.7) 21(-1.4,2.1) 23(-1.4,1.5) 25(-1.4,0.9) 27(-1.4,0.3) 29(-1.4,-0.3) 31(-1.4,-0.9) 33(-1.4,-1.5) 35(-1.4,-2.1) 37(-1.4,-2.7) 39(-1.4,-3.3) 41(-1.4,-3.9) 43(-1.4,-4.5) 45(-1.4,-5.1) 47(-1.4,-5.7) 49(-1.4,-6.3) 51(-1.4,-6.9) 53(-1.4,-7.5) 55(-1.4,-8.1)
  rect 0.65x0.3 smd: 2(1.475,7.8) 4(1.475,7.2) 6(1.475,6.6) 8(1.475,6) 10(1.475,5.4) 12(1.475,4.8) 14(1.475,4.2) 16(1.475,3.6) 18(1.475,3) 20(1.475,2.4) 22(1.475,1.8) 24(1.475,1.2) 26(1.475,0.6) 28(1.475,0) 30(1.475,-0.6) 32(1.475,-1.2) 34(1.475,-1.8) 36(1.475,-2.4) 38(1.475,-3) 40(1.475,-3.6) 42(1.475,-4.2) 44(1.475,-4.8) 46(1.475,-5.4) 48(1.475,-6) 50(1.475,-6.6) 52(1.475,-7.2) 54(1.475,-7.8)
  rect 0.95x0.4 smd: MP(-1.125,-8.8) MP(-1.125,8.8)
F.SilkS:
  lines w0.254: -2.622,7.95 -2.41,8.1 -2.622,8.25 -2.622,7.95 ; -2.06,-8.51 -1.86,-8.51 -1.86,-9.26 1.21,-9.26 1.21,-8.61 1.61,-8.61 1.61,-8.21 2.06,-8.21 2.06,0 2.06,8.21 1.61,8.21 1.61,8.61 1.21,8.61 1.21,9.26 -1.86,9.26 -1.86,8.51 -2.06,8.51 -2.06,0 -2.06,-8.51
Top Assembly:
  lines w0.254: -0.8,-8.81 0.1,-8.81 0.1,0 0.1,8.81 -0.8,8.81 ; -0.8,-8.81 -0.8,-9 0.85,-9 0.85,-8.5 1.35,-8.5 1.35,0 1.35,8.5 0.85,8.5 0.85,9 -0.8,9 -0.8,8.81 ; -0.8,-8.81 -1.5,-8.81 -1.5,-8.36 -1.6,-8.36 -1.6,-7.76 -1.9,-7.76 -1.9,0 -1.9,7.76 -1.6,7.76 -1.6,8.36 -1.5,8.36 -1.5,8.81 -0.8,8.81 ; -0.883,8.1 -0.6,8.3 -0.6,7.9 -0.883,8.1
  text "'.Designator'" at 1.429,-3.276 h0.81
Top Courtyard:
  lines w0.254: -2.65,-9.5 2.3,-9.5 2.3,9.5 -2.65,9.5 -2.65,-9.5
Top Designator:
  text ".Designator" at -7.793,-0.508 h1.52